# EAGLE library part PLD_1X08 (library barthess)
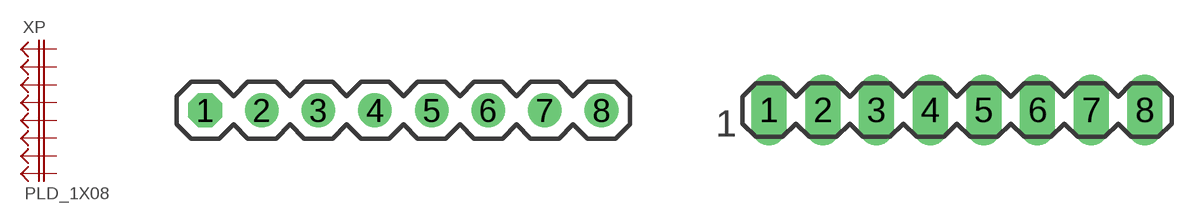
[diagram p22: symbol with the pads of PLD_1X08; footprints PLD_1X08, PLD_1X08_LONGPAD]

Designator prefix XP

## PLD_1X08  [PLD_1X08]
1  1  pas
2  2  pas
3  3  pas
4  4  pas
5  5  pas
6  6  pas
7  7  pas
8  8  pas

## PLD_1X08LONGPAD  [PLD_1X08_LONGPAD]
Pads as for PLD_1X08

## Footprint PLD_1X08 (pad centres in mm)
drill 1 octagon: 1 0,0
drill 1: 2 2.54,0; 3 5.08,0; 4 7.62,0; 5 10.16,0; 6 12.7,0; 7 15.24,0; 8 17.78,0

## Footprint PLD_1X08_LONGPAD (pad centres in mm)
drill 1.118 long: 1 0,0; 2 2.54,0; 3 5.08,0; 4 7.62,0; 5 10.16,0; 6 12.7,0; 7 15.24,0; 8 17.78,0